# Altium schematic symbol library IC_PMIC.SchLib: 2 symbols
Pins are listed as number, name and electrical type; pins without a type are passive.

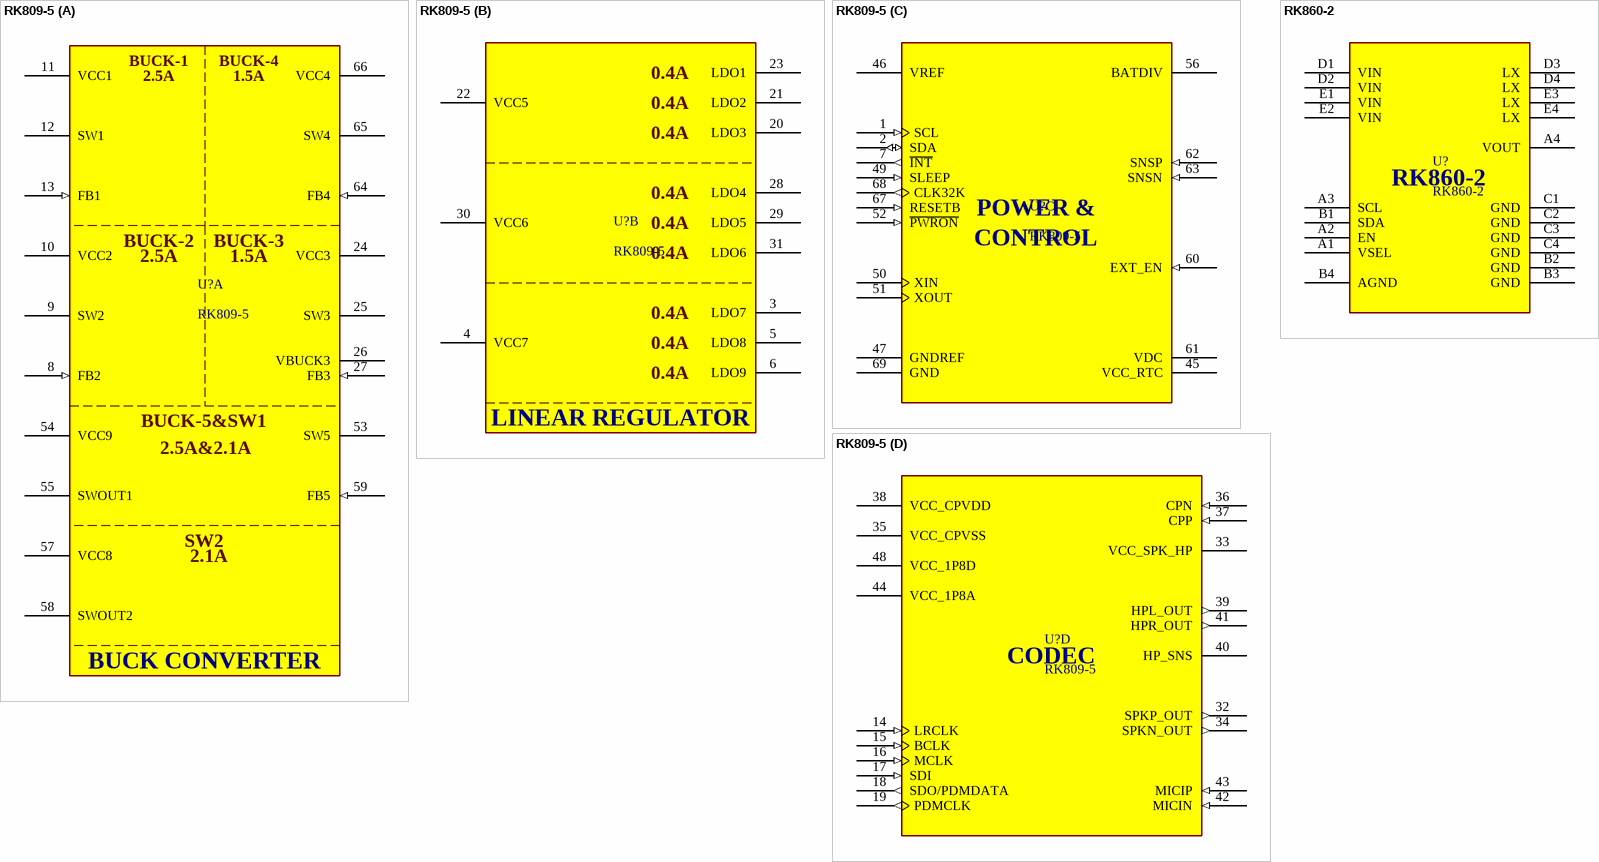
[diagram p0: symbols RK809-5 to RK860-2]

## RK809-5
designator U?
Complex power-management integrated circuit (PMIC) integratedCODEC for multi-core system applications; LCSC: *; MPN: *
footprint QFN68-7x7_P0.35
part A pins: 8 FB2 (in), 9 SW2 (power), 10 VCC2 (power), 11 VCC1 (power), 12 SW1 (power), 13 FB1 (in), 24 VCC3, 25 SW3, 26 VBUCK3 (power), 27 FB3 (in), 53 SW5, 54 VCC9 (power), 55 SWOUT1 (power), 57 VCC8 (power), 58 SWOUT2 (power), 59 FB5 (in), 64 FB4 (in), 65 SW4, 66 VCC4
part B pins: 3 LDO7 (power), 4 VCC7 (power), 5 LDO8 (power), 6 LDO9 (power), 20 LDO3 (power), 21 LDO2 (power), 22 VCC5 (power), 23 LDO1 (power), 28 LDO4 (power), 29 LDO5 (power), 30 VCC6 (power), 31 LDO6 (power)
part C pins: 1 SCL (in), 2 SDA (io), 7 ~{INT} (out), 45 VCC_RTC (power), 46 VREF (power), 47 GNDREF (power), 49 SLEEP (in), 50 XIN, 51 XOUT, 52 ~{PWRON} (in), 56 BATDIV (power), 60 EXT_EN (in), 61 VDC (power), 62 SNSP (in), 63 SNSN (in), 67 RESETB (in), 68 CLK32K (out), 69 GND (power)
part D pins: 14 LRCLK (in), 15 BCLK (in), 16 MCLK (in), 17 SDI (in), 18 SDO/PDMDATA (out), 19 PDMCLK (out), 32 SPKP_OUT (out), 33 VCC_SPK_HP (power), 34 SPKN_OUT (out), 35 VCC_CPVSS (power), 36 CPN (in), 37 CPP (in), 38 VCC_CPVDD (power), 39 HPL_OUT (out), 40 HP_SNS (power), 41 HPR_OUT (out), 42 MICIN (in), 43 MICIP (in), 44 VCC_1P8A (power), 48 VCC_1P8D (power)
part A text: BUCK-1; BUCK-4; 2.5A; 1.5A; BUCK-2; BUCK-3; BUCK-5&SW1; 2.5A&2.1A; 2.1A; BUCK CONVERTER
part B text: 0.4A; LINEAR REGULATOR
part C text: POWER &; CONTROL
part D text: CODEC

## RK860-2
designator U?
High efficiency 2.4MHz synchronous step down DC/DC regulator IC capable of / delivering up to 7A output current.; LCSC: *; MPN: *
footprint WLCSP20
pins: A1 VSEL (power), A2 EN (power), A3 SCL (power), A4 VOUT (power), B1 SDA (power), B2 GND (power), B3 GND (power), B4 AGND (power), C1 GND (power), C2 GND (power), C3 GND (power), C4 GND (power), D1 VIN (power), D2 VIN (power), D3 LX (power), D4 LX (power), E1 VIN (power), E2 VIN (power), E3 LX (power), E4 LX (power)